# Altium schematic symbol library SN74AHC08.SchLib: 1 symbol
Pins are listed as number, name and electrical type; pins without a type are passive.

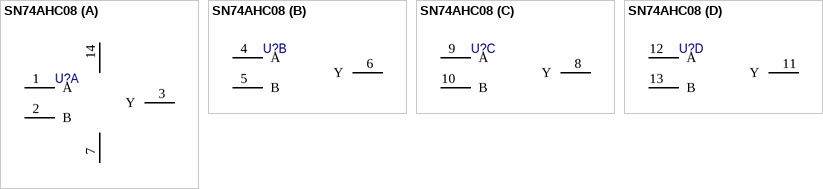
[diagram p0: symbol SN74AHC08]

## SN74AHC08
designator U?  (value not drawn)
part A pins: 1 A, 2 B, 3 Y, 7 GND, 14 VCC
part B pins: 4 A, 5 B, 6 Y
part C pins: 8 Y, 9 A, 10 B
part D pins: 11 Y, 12 A, 13 B